# EAGLE library part BMD-340-A-R (library BMD-340)
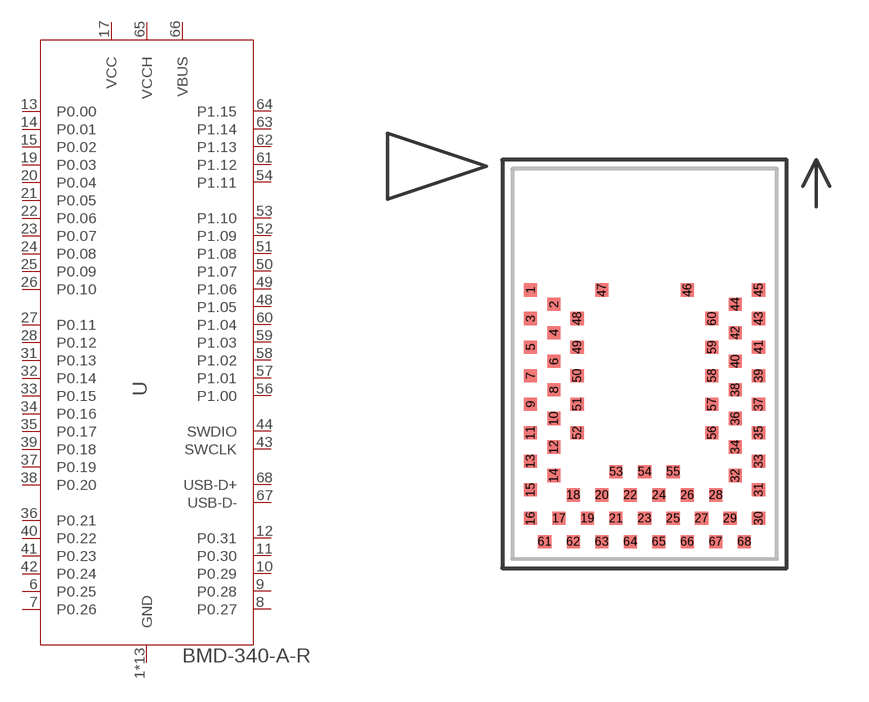
[diagram p0: symbol with the pads of BMD-340-A-R_RIG; footprint BMD-340-A-R_RIG]

Designator prefix U

## BMD-340-A-R (MF: UBLOX; MPN: BMD-340-A-R)  [BMD-340-A-R_RIG]
1  GND
2  GND
3  GND
4  GND
5  GND
6  P0.25
7  P0.26
8  P0.27
9  P0.28
10  P0.29
11  P0.30
12  P0.31
13  P0.00
14  P0.01
15  P0.02
16  GND
17  VCC  pwr
18  GND
19  P0.03
20  P0.04
21  P0.05
22  P0.06
23  P0.07
24  P0.08
25  P0.09
26  P0.10
27  P0.11
28  P0.12
29  GND
30  GND
31  P0.13
32  P0.14
33  P0.15
34  P0.16
35  P0.17
36  P0.21
37  P0.19
38  P0.20
39  P0.18
40  P0.22
41  P0.23
42  P0.24
43  SWCLK  in
44  SWDIO
45  GND
46  GND
47  GND
48  P1.05
49  P1.06
50  P1.07
51  P1.08
52  P1.09
53  P1.10
54  P1.11
55  GND
56  P1.00
57  P1.01
58  P1.02
59  P1.03
60  P1.04
61  P1.12
62  P1.13
63  P1.14
64  P1.15
65  VCCH  pwr
66  VBUS  pwr
67  USB-D-
68  USB-D+

## Footprint BMD-340-A-R_RIG (pad centres in mm)
smd 0.508 x 0.508: 1 -4.4,2.85; 2 -3.5,2.3; 3 -4.4,1.75; 4 -3.5,1.2; 5 -4.4,0.65; 6 -3.5,0.1; 7 -4.4,-0.45; 8 -3.5,-1; 9 -4.4,-1.55; 10 -3.5,-2.1; 11 -4.4,-2.65; 12 -3.5,-3.2; 13 -4.4,-3.75; 14 -3.5,-4.3; 15 -4.4,-4.85; 16 -4.4,-5.95; 17 -3.3,-5.95; 18 -2.75,-5.05; 19 -2.2,-5.95; 20 -1.65,-5.05; 21 -1.1,-5.95; 22 -0.55,-5.05; 23 0,-5.95; 24 0.55,-5.05; 25 1.1,-5.95; 26 1.65,-5.05; 27 2.2,-5.95; 28 2.75,-5.05; 29 3.3,-5.95; 30 4.4,-5.95; 31 4.4,-4.85; 32 3.5,-4.3; 33 4.4,-3.75; 34 3.5,-3.2; 35 4.4,-2.65; 36 3.5,-2.1; 37 4.4,-1.55; 38 3.5,-1; 39 4.4,-0.45; 40 3.5,0.1; 41 4.4,0.65; 42 3.5,1.2; 43 4.4,1.75; 44 3.5,2.3; 45 4.4,2.85; 46 1.65,2.85; 47 -1.65,2.85; 48 -2.6,1.75; 49 -2.6,0.65; 50 -2.6,-0.45; 51 -2.6,-1.55; 52 -2.6,-2.65; 53 -1.1,-4.15; 54 0,-4.15; 55 1.1,-4.15; 56 2.6,-2.65; 57 2.6,-1.55; 58 2.6,-0.45; 59 2.6,0.65; 60 2.6,1.75; 61 -3.85,-6.85; 62 -2.75,-6.85; 63 -1.65,-6.85; 64 -0.55,-6.85; 65 0.55,-6.85; 66 1.65,-6.85; 67 2.75,-6.85; 68 3.85,-6.85